# EAGLE library part EE310_RCTANK_PROTOA_LSM6DS3TR (library pwmCatMoto)
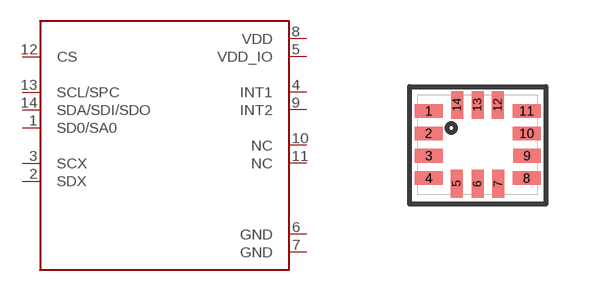
[diagram p3: symbol with the pads of EE310_RCTANK_PROTOA_14VFLGA_LSM6DS3TR; footprint EE310_RCTANK_PROTOA_14VFLGA_LSM6DS3TR]

Designator prefix -

## EE310_RCTANK_PROTOA_LSM6DS3TR  [EE310_RCTANK_PROTOA_14VFLGA_LSM6DS3TR]
1  SD0/SA0
2  SDX
3  SCX
4  INT1  out
5  VDD_IO  pwr
6  GND  pwr
7  GND  pwr
8  VDD  pwr
9  INT2  pwr
10  NC  pwr
11  NC  pwr
12  CS  in
13  SCL/SPC
14  SDA/SDI/SDO

## Footprint EE310_RCTANK_PROTOA_14VFLGA_LSM6DS3TR (pad centres in mm)
smd 0.69 x 0.34: 1 -1.22,0.84; 2 -1.22,0.28; 3 -1.22,-0.28; 4 -1.22,-0.84; 8 1.23,-0.84; 9 1.24,-0.28; 10 1.23,0.28; 11 1.23,0.84
smd 0.3 x 0.69: 5 -0.52,-0.98; 6 0,-0.98; 7 0.52,-0.98; 12 0.51,0.99; 13 0,0.99; 14 -0.51,0.99